# EAGLE library part 25MPX (library PEGMA)
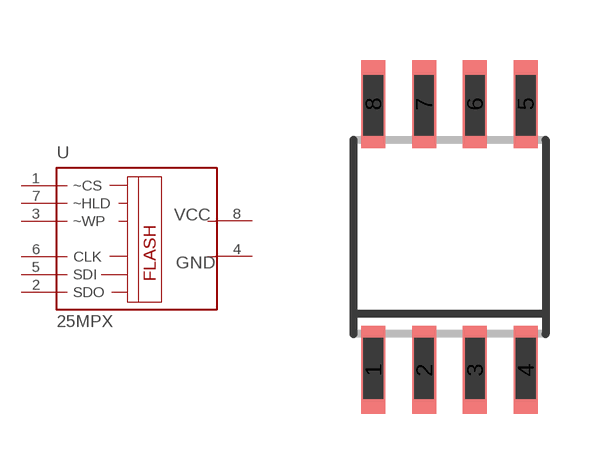
[diagram p18: symbol with the pads of SO-08M; footprint SO-08M]

Designator prefix -

## 25MPX  [SO-08M]
1  ~CS  in
2  SDO  hiz
3  ~WP
4  GND  pwr
5  SDI  in
6  CLK  in
7  ~HLD
8  VCC  pwr

## Footprint SO-08M (pad centres in mm)
Small Outline Medium Plastic Gull Wing 207-mil body, package type SM
smd 0.6 x 2.2: 1 -1.905,-3.33; 2 -0.635,-3.33; 3 0.635,-3.33; 4 1.905,-3.33; 5 1.905,3.33; 6 0.635,3.33; 7 -0.635,3.33; 8 -1.905,3.33